# Altium schematic symbol library B78476A8065A003.SchLib: 1 symbol
Pins are listed as number, name and electrical type; pins without a type are passive.

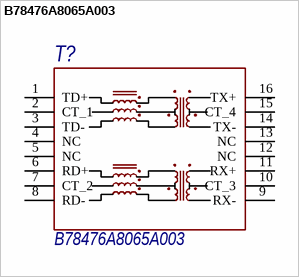
[diagram p0: symbol B78476A8065A003]

## B78476A8065A003
designator T?
Pulse Transformers and Modules for LAN, Module, 10/100BASE-TX, 1Port, LxWxH=12.7x7.11x5.85mm; Manufacturer_Name: TDK; Geometry.Height: 5.85mm; Manufacturer_Part_Number: B78476A8065A003; Mouser Part Number: 871-B78476A8065A3; Mouser Price/Stock: https://www.mouser.co.uk/ProductDetail/EPCOS-TDK/B78476A8065A003?qs=Uha62PnlbFBmivqA6S0Irg%3D%3D; Arrow Part Number: B78476A8065A003; Arrow Price/Stock: https://www.arrow.com/en/products/b78476a8065a003/epcos-tdk; Datasheet Link: https://product.tdk.com/system/files/dam/doc/product/transformer/transformer/lan/data_sheet/30/ds/lan_mod/b78476a8065a003.pdf
pins: 1 TD+, 2 CT_1, 3 TD-, 4 NC, 5 NC, 6 RD+, 7 CT_2, 8 RD-, 9 RX-, 10 CT_3, 11 RX+, 12 NC, 13 NC, 14 TX-, 15 CT_4, 16 TX+